# Altium schematic symbol library Connector - HDMI.SchLib: 3 symbols
Pins are listed as number, name and electrical type; pins without a type are passive.

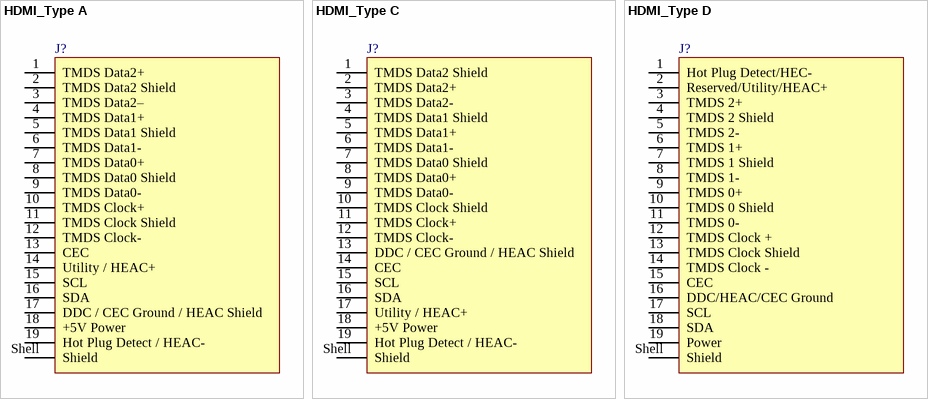
[diagram p0: symbols HDMI_Type A to HDMI_Type D]

## HDMI_Type A
designator J?
pins: 1 TMDS Data2+, 2 TMDS Data2 Shield, 3 TMDS Data2–, 4 TMDS Data1+, 5 TMDS Data1 Shield, 6 TMDS Data1-, 7 TMDS Data0+, 8 TMDS Data0 Shield, 9 TMDS Data0-, 10 TMDS Clock+, 11 TMDS Clock Shield, 12 TMDS Clock-, 13 CEC, 14 Utility / HEAC+, 15 SCL, 16 SDA, 17 DDC / CEC Ground / HEAC Shield, 18 +5V Power, 19 Hot Plug Detect / HEAC-, Shell Shield

## HDMI_Type C
designator J?
pins: 1 TMDS Data2 Shield, 2 TMDS Data2+, 3 TMDS Data2-, 4 TMDS Data1 Shield, 5 TMDS Data1+, 6 TMDS Data1-, 7 TMDS Data0 Shield, 8 TMDS Data0+, 9 TMDS Data0-, 10 TMDS Clock Shield, 11 TMDS Clock+, 12 TMDS Clock-, 13 DDC / CEC Ground / HEAC Shield, 14 CEC, 15 SCL, 16 SDA, 17 Utility / HEAC+, 18 +5V Power, 19 Hot Plug Detect / HEAC-, Shell Shield

## HDMI_Type D
designator J?
pins: 1 Hot Plug Detect/HEC-, 2 Reserved/Utility/HEAC+, 3 TMDS 2+, 4 TMDS 2 Shield, 5 TMDS 2-, 6 TMDS 1+, 7 TMDS 1 Shield, 8 TMDS 1-, 9 TMDS 0+, 10 TMDS 0 Shield, 11 TMDS 0-, 12 TMDS Clock +, 13 TMDS Clock Shield, 14 TMDS Clock -, 15 CEC, 16 DDC/HEAC/CEC Ground, 17 SCL, 18 SDA, 19 Power, Shell Shield